# EAGLE library part DS1307 (library mECustom)
DS1307 Real time clock (RTC) with battery backup facility. I2C Communication Protocol Package: DIL08 SOCKET Dual In Line Package
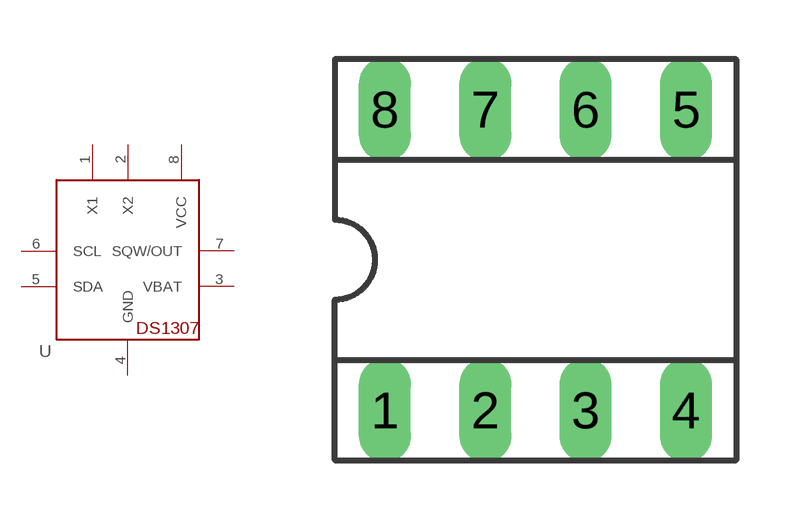
[diagram p0: symbol with the pads of SOCKET08; footprint SOCKET08]

Designator prefix -

## DS1307  [SOCKET08]
1  X1  pas
2  X2  pas
3  VBAT  pwr
4  GND  pwr
5  SDA
6  SCL
7  SQW/OUT
8  VCC  pwr

## Footprint SOCKET08 (pad centres in mm)
drill 0.813 long: 1 -3.81,-3.81; 2 -1.27,-3.81; 3 1.27,-3.81; 4 3.81,-3.81; 5 3.81,3.81; 6 1.27,3.81; 7 -1.27,3.81; 8 -3.81,3.81